# EAGLE library part HEADER-1X06 (library Header and Connector)
Header - 1X06
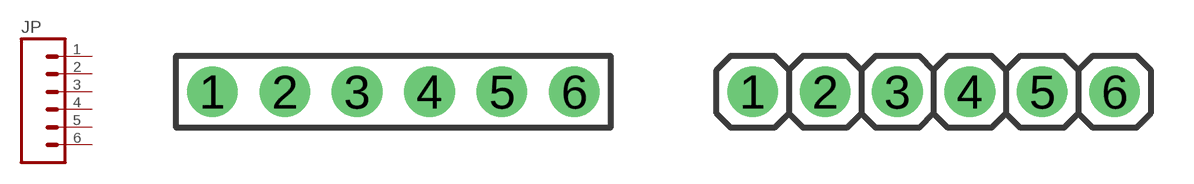
[diagram p1: symbol with the pads of HDR-F1X06; footprints HDR-F1X06, HDR-M1X06]

Designator prefix JP

## HEADER-1X06_(FEMALE) (CYTRON-PC: CN-PH-F140S; DESC: Female Header - 1x40 Ways; VALUE: 6/40 Ways)  [HDR-F1X06]
1  1  pas
2  2  pas
3  3  pas
4  4  pas
5  5  pas
6  6  pas

## HEADER-1X06_(MALE) (CYTRON-PC: CN-PH-M140S; DESC: Male Header - 1x40 Ways; VALUE: 6/40 Ways), HEADER-1X06_RA_(MALE) (CYTRON-PC: CN-PH-M140R; DESC: Male Header - 1x40 Ways; VALUE: 6/40 Ways)  [HDR-M1X06]
Pads as for HDR-F1X06

## HEADER-1X06_(FEMALE2) (VALUE: 6/40 Ways)  [HDR-F1X06_SMD]
Pads as for HDR-F1X06

## HEADER-1X06_(1R) (CYTRON-PC: HDR-F1X06-1R; VALUE: 6 Ways)  [HDR-F1X06-1R]
Pads as for HDR-F1X06

## HEADER-1X06_(SMD-FEMALE-TYPE1) (CYTRON-PC: S-CN-PH-F106S; DESC: S Straight Female Header 1x6 Ways; VALUE: 6 Ways)  [S-HDR-F1X06]
Pads as for HDR-F1X06

## HEADER-1X06_(SMD_MALE_TYPE1) (CYTRON-PC: S-CN-PH-M140S; DESC: S Straight Male Header 1x40 Ways; VALUE: 6/40 Ways)  [S-HDR-M1X06]
Pads as for HDR-F1X06

## HEADER-1X06_(SMD_MALE_TYPE2) (CYTRON-PC: S-CN-PH-M140S; DESC: S Straight Male Header 1x40 Ways; VALUE: 6/40 Ways)  [S-HDR-M1X06-TYP2]
Pads as for HDR-F1X06

## HEADER-1X06_(MALE-NOSILK)  [HDR-M1X06-NOSILK]
Pads as for HDR-F1X06

## HEADER-1X06_(MALE-LONG)  [HDR-M1X06-LONG]
1  1  pas
1-1  1  pas
1-2  1  pas
2  2  pas
2-1  2  pas
2-2  2  pas
3  3  pas
3-1  3  pas
3-2  3  pas
4  4  pas
4-1  4  pas
4-2  4  pas
5  5  pas
5-1  5  pas
5-2  5  pas
6  6  pas
6-1  6  pas
6-2  6  pas

## Footprint HDR-F1X06 (pad centres in mm)
Female Header - 1X06
drill 1.016 pad 1.778: 1 0,0; 2 2.54,0; 3 5.08,0; 4 7.62,0; 5 10.16,0; 6 12.7,0

## Footprint HDR-M1X06 (pad centres in mm)
Male Header - 1X06
drill 1 pad 1.778: 1 0,0; 2 2.54,0; 3 5.08,0; 4 7.62,0; 5 10.16,0; 6 12.7,0

## Footprint HDR-F1X06_SMD (pad centres in mm)
drill 1.016 pad 1.27: 1 -6.35,0; 2 -3.81,0; 3 -1.27,0; 4 1.27,0; 5 3.81,0; 6 6.35,0

## Footprint HDR-F1X06-1R (pad centres in mm)
drill 1.016 pad 1.778: 1 0,2.54; 2 2.54,-2.54; 3 5.08,2.54; 4 7.62,-2.54; 5 10.16,2.54; 6 12.7,-2.54

## Footprint S-HDR-F1X06 (pad centres in mm)
SMD Male Header - 1X06
smd 1 x 2: 1 -6.35,-1.7; 2 -3.81,1.7; 3 -1.27,-1.7; 4 1.27,1.7; 5 3.81,-1.7; 6 6.35,1.7

## Footprint S-HDR-M1X06 (pad centres in mm)
SMD Male Header 1x06 Created by: Wai Weng
smd 1 x 2: 1 0,-1.7; 2 2.54,1.7; 3 5.08,-1.7; 4 7.62,1.7; 5 10.16,-1.7; 6 12.7,1.7

## Footprint S-HDR-M1X06-TYP2 (pad centres in mm)
SMD Male Header 1x06 Type 2 Created by: Wai Weng
smd 1 x 2: 1 0,1.7; 2 2.54,-1.7; 3 5.08,1.7; 4 7.62,-1.7; 5 10.16,1.7; 6 12.7,-1.7

## Footprint HDR-M1X06-NOSILK (pad centres in mm)
Male Header - 1X06 Without overlay
drill 1 pad 1.778: 1 0,0; 2 2.54,0; 3 5.08,0; 4 7.62,0; 5 10.16,0; 6 12.7,0

## Footprint HDR-M1X06-LONG (pad centres in mm)
drill 1.016 pad 1.778 long: 1 0,0; 2 2.54,0; 3 5.08,0; 4 7.62,0; 5 10.16,0; 6 12.7,0
drill 0.5: 1-1 0,-1.143; 1-2 0,1.143; 2-1 2.54,-1.143; 2-2 2.54,1.143; 3-1 5.08,-1.143; 3-2 5.08,1.143; 4-1 7.62,-1.143; 4-2 7.62,1.143; 5-1 10.16,-1.143; 5-2 10.16,1.143; 6-1 12.7,-1.143; 6-2 12.7,1.143